# EAGLE library part TPS61236P (library CougsInSpace-IC-Power)
DC/DC Converter Boost 8A TPS6123x <https://github.com/CougsInSpace/Resources/blob/master/SupplierDocuments/Ti/TPS61236_BoostConverter.pdf>
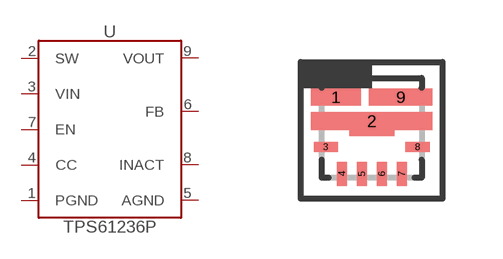
[diagram p4: symbol with the pads of QFN-TPS6123X; footprint QFN-TPS6123X]

Designator prefix U

## TPS61236P (SKU: 60-0005; VALUE: TPS61236)  [QFN-TPS6123X]
1  PGND  pwr
2  SW  pas
3  VIN  in
4  CC  in
5  AGND  pwr
6  FB  in
7  EN  in
8  INACT  oc
9  VOUT  pwr

## Footprint QFN-TPS6123X (pad centres in mm)
Quad Flat No-Leads (QFN) - 9 pins - 2.5 x 2.5 mm - For TPS61235
smd 1.25 x 0.43: 1 -0.9,0.77
smd 3.05 x 0.45: 2 0,0.17
smd 0.6 x 0.25: 3 -1.15,-0.475; 8 1.15,-0.475
smd 0.25 x 0.6: 4 -0.75,-1.15; 5 -0.25,-1.15; 6 0.25,-1.15; 7 0.75,-1.15
smd 1.6 x 0.43: 9 0.725,0.77